# Altium schematic symbol library LTC3113EDHD#TRPBF.SchLib: 1 symbol
Pins are listed as number, name and electrical type; pins without a type are passive.

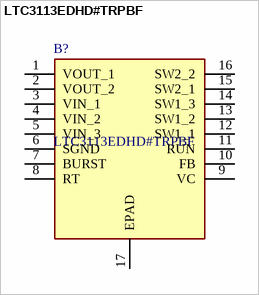
[diagram p0: symbol LTC3113EDHD#TRPBF]

## LTC3113EDHD#TRPBF
designator B?
Conv DC-DC 1.8V to 5.5V Non-Inv/Inv/Step Up/Step Down Single-Out 1.8V to 5.5V 3A 16-Pin DFN EP T/R; Manufacturer_Name: Analog Devices; Geometry.Height: 0.8mm; Mouser Part Number: 584-LTC3113EDHDTRPBF; Mouser Price/Stock: https://www.mouser.co.uk/ProductDetail/Analog-Devices/LTC3113EDHDTRPBF?qs=hVkxg5c3xu%2Fb1aChqzfx9w%3D%3D; Manufacturer_Part_Number: LTC3113EDHD#TRPBF; Datasheet Link: https://www.analog.com/media/en/technical-documentation/data-sheets/3113f.pdf
footprint SON50P400X500X80-17N-D
pins: 1 VOUT_1, 2 VOUT_2, 3 VIN_1, 4 VIN_2, 5 VIN_3, 6 SGND, 7 BURST, 8 RT, 9 VC, 10 FB, 11 RUN, 12 SW1_1, 13 SW1_2, 14 SW1_3, 15 SW2_1, 16 SW2_2, 17 EPAD